# Altium schematic symbol library ADG902BRMZ.SchLib: 1 symbol
Pins are listed as number, name and electrical type; pins without a type are passive.

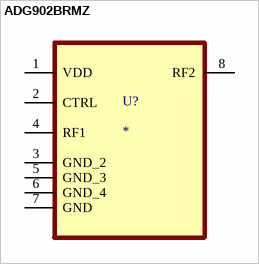
[diagram p0: symbol ADG902BRMZ]

## ADG902BRMZ
designator U?
RF Switch IC General Purpose SPST 2.5GHz 50Ohm 8-MSOP; MF: Analog Devices; MP: ADG902BRMZ; Digi-Key_Part_Number: ADG902BRMZ-ND; Purchase-URL: https://pricing.snapeda.com/search/part/ADG902BRMZ/?ref=eda; Value: *; SnapEDA_Link: https://www.snapeda.com/parts/ADG902BRMZ/Analog%20Devices%20Inc./view-part/233734/?ref=snap; Check_prices: https://www.snapeda.com/parts/ADG902BRMZ/Analog%20Devices%20Inc./view-part/233734/?ref=eda; Package: MSOP-8 Analog Devices
footprint SOP65P490X110-8N
pins: 1 VDD (power), 2 CTRL, 3 GND_2, 4 RF1, 5 GND_3, 6 GND_4, 7 GND, 8 RF2